# EAGLE library part ICE40HX1K-TQ144 (library lattice-fpga-ICE40HX1K-TQ144)
FPGA iCE40 HX Family 1280 Cells 40nm Technology 1.2V 144-Pin TQFP Tray Source: Datasheet <https://datasheet.datasheetarchive.com/originals/dk/DKDS-14/263177.pdf>
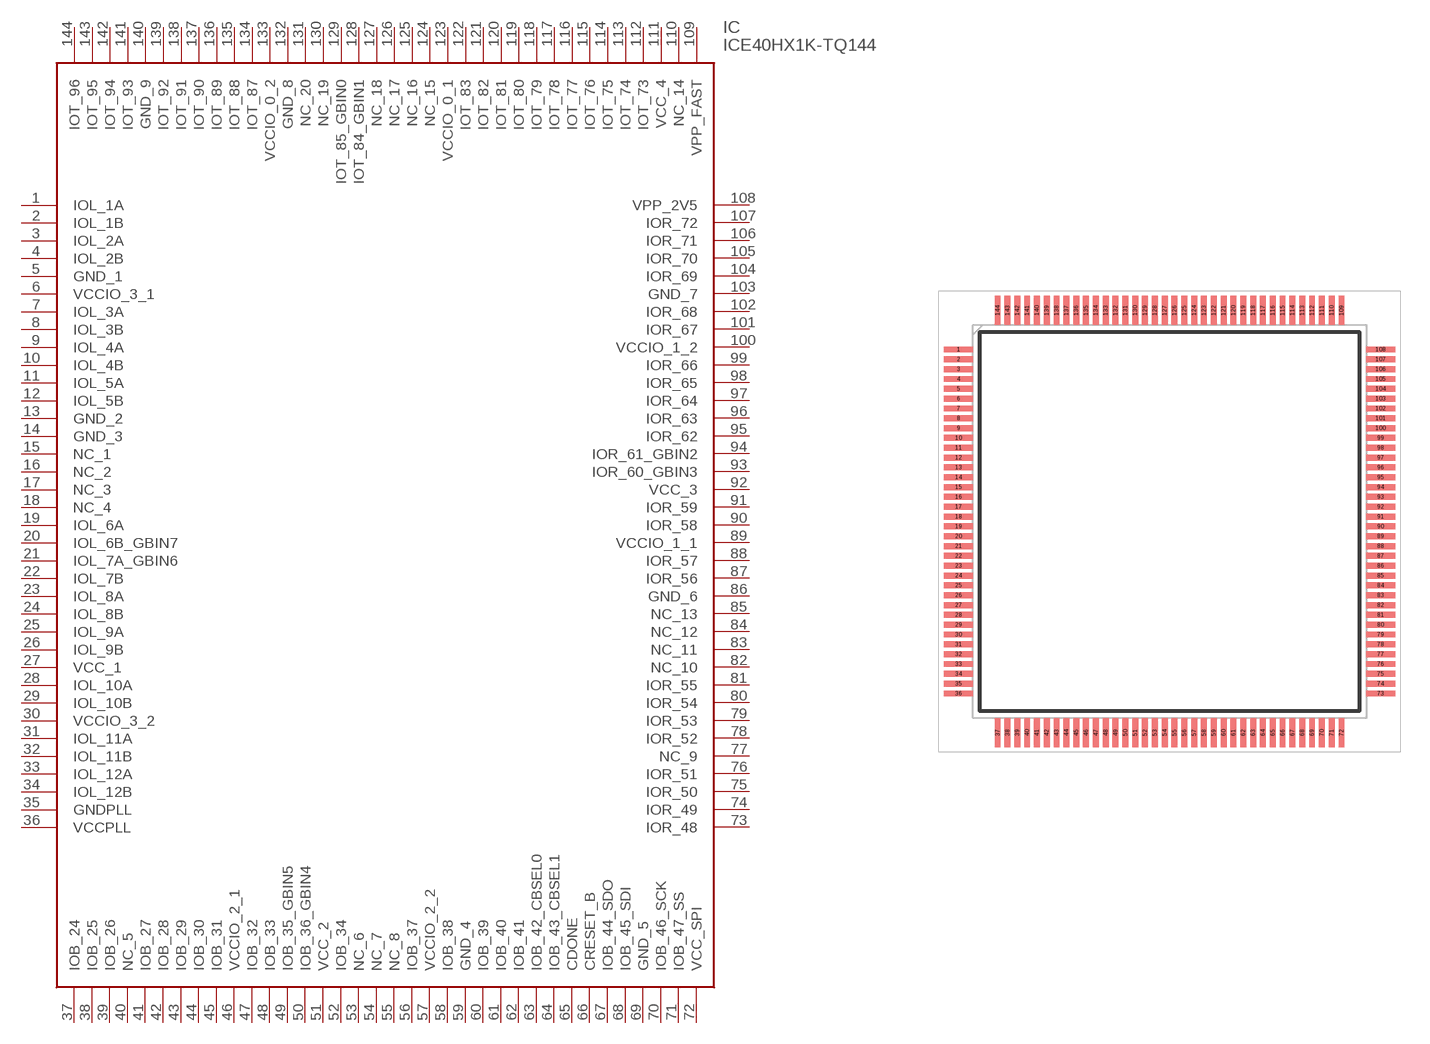
[diagram p0: symbol with the pads of QFP50P2200X2200X160-144N; footprint QFP50P2200X2200X160-144N]

Designator prefix IC

## ICE40HX1K-TQ144 (Description: FPGA iCE40 HX Family 1280 Cells 40nm Technology 1.2V 144-Pin TQFP Tray; Height: 1.6mm; Manufacturer_Name: Lattice Semiconductor; Manufacturer_Part_Number: ICE40HX1K-TQ144; Mouser_Part_Number: 842-ICE40HX1K-TQ144; Mouser_Price-Stock: https://www.mouser.co.uk/ProductDetail/Lattice/iCE40HX1K-TQ144?qs=F9A14TELRMtiYSwGl6R%2Fcw%3D%3D)  [QFP50P2200X2200X160-144N]
1  IOL_1A
2  IOL_1B
3  IOL_2A
4  IOL_2B
5  GND_1
6  VCCIO_3_1
7  IOL_3A
8  IOL_3B
9  IOL_4A
10  IOL_4B
11  IOL_5A
12  IOL_5B
13  GND_2
14  GND_3
15  NC_1
16  NC_2
17  NC_3
18  NC_4
19  IOL_6A
20  IOL_6B_GBIN7
21  IOL_7A_GBIN6
22  IOL_7B
23  IOL_8A
24  IOL_8B
25  IOL_9A
26  IOL_9B
27  VCC_1
28  IOL_10A
29  IOL_10B
30  VCCIO_3_2
31  IOL_11A
32  IOL_11B
33  IOL_12A
34  IOL_12B
35  GNDPLL
36  VCCPLL
37  IOB_24
38  IOB_25
39  IOB_26
40  NC_5
41  IOB_27
42  IOB_28
43  IOB_29
44  IOB_30
45  IOB_31
46  VCCIO_2_1
47  IOB_32
48  IOB_33
49  IOB_35_GBIN5
50  IOB_36_GBIN4
51  VCC_2
52  IOB_34
53  NC_6
54  NC_7
55  NC_8
56  IOB_37
57  VCCIO_2_2
58  IOB_38
59  GND_4
60  IOB_39
61  IOB_40
62  IOB_41
63  IOB_42_CBSEL0
64  IOB_43_CBSEL1
65  CDONE
66  CRESET_B
67  IOB_44_SDO
68  IOB_45_SDI
69  GND_5
70  IOB_46_SCK
71  IOB_47_SS
72  VCC_SPI
73  IOR_48
74  IOR_49
75  IOR_50
76  IOR_51
77  NC_9
78  IOR_52
79  IOR_53
80  IOR_54
81  IOR_55
82  NC_10
83  NC_11
84  NC_12
85  NC_13
86  GND_6
87  IOR_56
88  IOR_57
89  VCCIO_1_1
90  IOR_58
91  IOR_59
92  VCC_3
93  IOR_60_GBIN3
94  IOR_61_GBIN2
95  IOR_62
96  IOR_63
97  IOR_64
98  IOR_65
99  IOR_66
100  VCCIO_1_2
101  IOR_67
102  IOR_68
103  GND_7
104  IOR_69
105  IOR_70
106  IOR_71
107  IOR_72
108  VPP_2V5
109  VPP_FAST
110  NC_14
111  VCC_4
112  IOT_73
113  IOT_74
114  IOT_75
115  IOT_76
116  IOT_77
117  IOT_78
118  IOT_79
119  IOT_80
120  IOT_81
121  IOT_82
122  IOT_83
123  VCCIO_0_1
124  NC_15
125  NC_16
126  NC_17
127  NC_18
128  IOT_84_GBIN1
129  IOT_85_GBIN0
130  NC_19
131  NC_20
132  GND_8
133  VCCIO_0_2
134  IOT_87
135  IOT_88
136  IOT_89
137  IOT_90
138  IOT_91
139  IOT_92
140  GND_9
141  IOT_93
142  IOT_94
143  IOT_95
144  IOT_96

## Footprint QFP50P2200X2200X160-144N (pad centres in mm)
144-PIN TQFP
smd 1.475 x 0.3: 1 -10.738,8.75; 2 -10.738,8.25; 3 -10.738,7.75; 4 -10.738,7.25; 5 -10.738,6.75; 6 -10.738,6.25; 7 -10.738,5.75; 8 -10.738,5.25; 9 -10.738,4.75; 10 -10.738,4.25; 11 -10.738,3.75; 12 -10.738,3.25; 13 -10.738,2.75; 14 -10.738,2.25; 15 -10.738,1.75; 16 -10.738,1.25; 17 -10.738,0.75; 18 -10.738,0.25; 19 -10.738,-0.25; 20 -10.738,-0.75; 21 -10.738,-1.25; 22 -10.738,-1.75; 23 -10.738,-2.25; 24 -10.738,-2.75; 25 -10.738,-3.25; 26 -10.738,-3.75; 27 -10.738,-4.25; 28 -10.738,-4.75; 29 -10.738,-5.25; 30 -10.738,-5.75; 31 -10.738,-6.25; 32 -10.738,-6.75; 33 -10.738,-7.25; 34 -10.738,-7.75; 35 -10.738,-8.25; 36 -10.738,-8.75; 73 10.738,-8.75; 74 10.738,-8.25; 75 10.738,-7.75; 76 10.738,-7.25; 77 10.738,-6.75; 78 10.738,-6.25; 79 10.738,-5.75; 80 10.738,-5.25; 81 10.738,-4.75; 82 10.738,-4.25; 83 10.738,-3.75; 84 10.738,-3.25; 85 10.738,-2.75; 86 10.738,-2.25; 87 10.738,-1.75; 88 10.738,-1.25; 89 10.738,-0.75; 90 10.738,-0.25; 91 10.738,0.25; 92 10.738,0.75; 93 10.738,1.25; 94 10.738,1.75; 95 10.738,2.25; 96 10.738,2.75; 97 10.738,3.25; 98 10.738,3.75; 99 10.738,4.25; 100 10.738,4.75; 101 10.738,5.25; 102 10.738,5.75; 103 10.738,6.25; 104 10.738,6.75; 105 10.738,7.25; 106 10.738,7.75; 107 10.738,8.25; 108 10.738,8.75
smd 0.3 x 1.475: 37 -8.75,-10.738; 38 -8.25,-10.738; 39 -7.75,-10.738; 40 -7.25,-10.738; 41 -6.75,-10.738; 42 -6.25,-10.738; 43 -5.75,-10.738; 44 -5.25,-10.738; 45 -4.75,-10.738; 46 -4.25,-10.738; 47 -3.75,-10.738; 48 -3.25,-10.738; 49 -2.75,-10.738; 50 -2.25,-10.738; 51 -1.75,-10.738; 52 -1.25,-10.738; 53 -0.75,-10.738; 54 -0.25,-10.738; 55 0.25,-10.738; 56 0.75,-10.738; 57 1.25,-10.738; 58 1.75,-10.738; 59 2.25,-10.738; 60 2.75,-10.738; 61 3.25,-10.738; 62 3.75,-10.738; 63 4.25,-10.738; 64 4.75,-10.738; 65 5.25,-10.738; 66 5.75,-10.738; 67 6.25,-10.738; 68 6.75,-10.738; 69 7.25,-10.738; 70 7.75,-10.738; 71 8.25,-10.738; 72 8.75,-10.738; 109 8.75,10.738; 110 8.25,10.738; 111 7.75,10.738; 112 7.25,10.738; 113 6.75,10.738; 114 6.25,10.738; 115 5.75,10.738; 116 5.25,10.738; 117 4.75,10.738; 118 4.25,10.738; 119 3.75,10.738; 120 3.25,10.738; 121 2.75,10.738; 122 2.25,10.738; 123 1.75,10.738; 124 1.25,10.738; 125 0.75,10.738; 126 0.25,10.738; 127 -0.25,10.738; 128 -0.75,10.738; 129 -1.25,10.738; 130 -1.75,10.738; 131 -2.25,10.738; 132 -2.75,10.738; 133 -3.25,10.738; 134 -3.75,10.738; 135 -4.25,10.738; 136 -4.75,10.738; 137 -5.25,10.738; 138 -5.75,10.738; 139 -6.25,10.738; 140 -6.75,10.738; 141 -7.25,10.738; 142 -7.75,10.738; 143 -8.25,10.738; 144 -8.75,10.738